# Altium integrated library ADA386.IntLib: 1 symbol
Pins are listed as number, name and electrical type; pins without a type are passive.

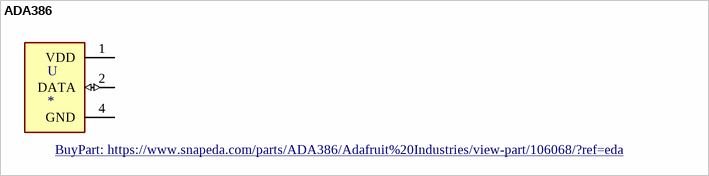
[diagram p0: symbol ADA386]

## ADA386
designator U
DHT11 basic temperature-humidity sensor + extras; MF: Adafruit Industries; MP: ADA386; Value: *; Package: None; SnapEDA_Link: https://www.snapeda.com/parts/ADA386/Adafruit%20Industries/view-part/106068/?ref=snap; Price: None; Availability: Unavailable; BuyPart: https://www.snapeda.com/parts/ADA386/Adafruit%20Industries/view-part/106068/?ref=eda
footprint XDCR_ADA386
pins: 1 VDD (power), 2 DATA (io), 4 GND (power)